# EAGLE library part MAX9016 (library epic)
Comparator, Open-Drain, Low-Power (1uA), Internal Reference (1.236+/-1%)
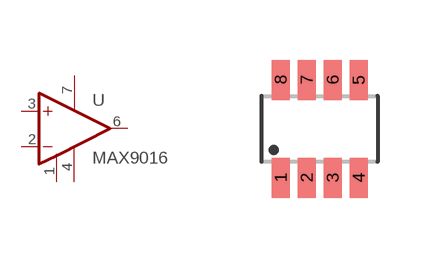
[diagram p8: symbol with the pads of SOT23-8L; footprint SOT23-8L]

Designator prefix U

## MAX9016  [SOT23-8L]
1  REF  pwr
2  -IN  in
3  +IN  in
4  V-  pwr
6  OUT  out
7  V+  pwr

## Footprint SOT23-8L (pad centres in mm)
SC70/SOT23-8 Source: http://datasheets.maxim-ic.com/en/ds/MAX4335-MAX4338.pdf
smd 0.45 x 1: 1 -0.975,-1.225; 2 -0.325,-1.225; 3 0.325,-1.225; 4 0.975,-1.225; 5 0.975,1.225; 6 0.325,1.225; 7 -0.325,1.225; 8 -0.975,1.225